# Altium schematic symbol library opto-honeywell.SCHLIB: 117 symbols
Pins are listed as number, name and electrical type; pins without a type are passive.

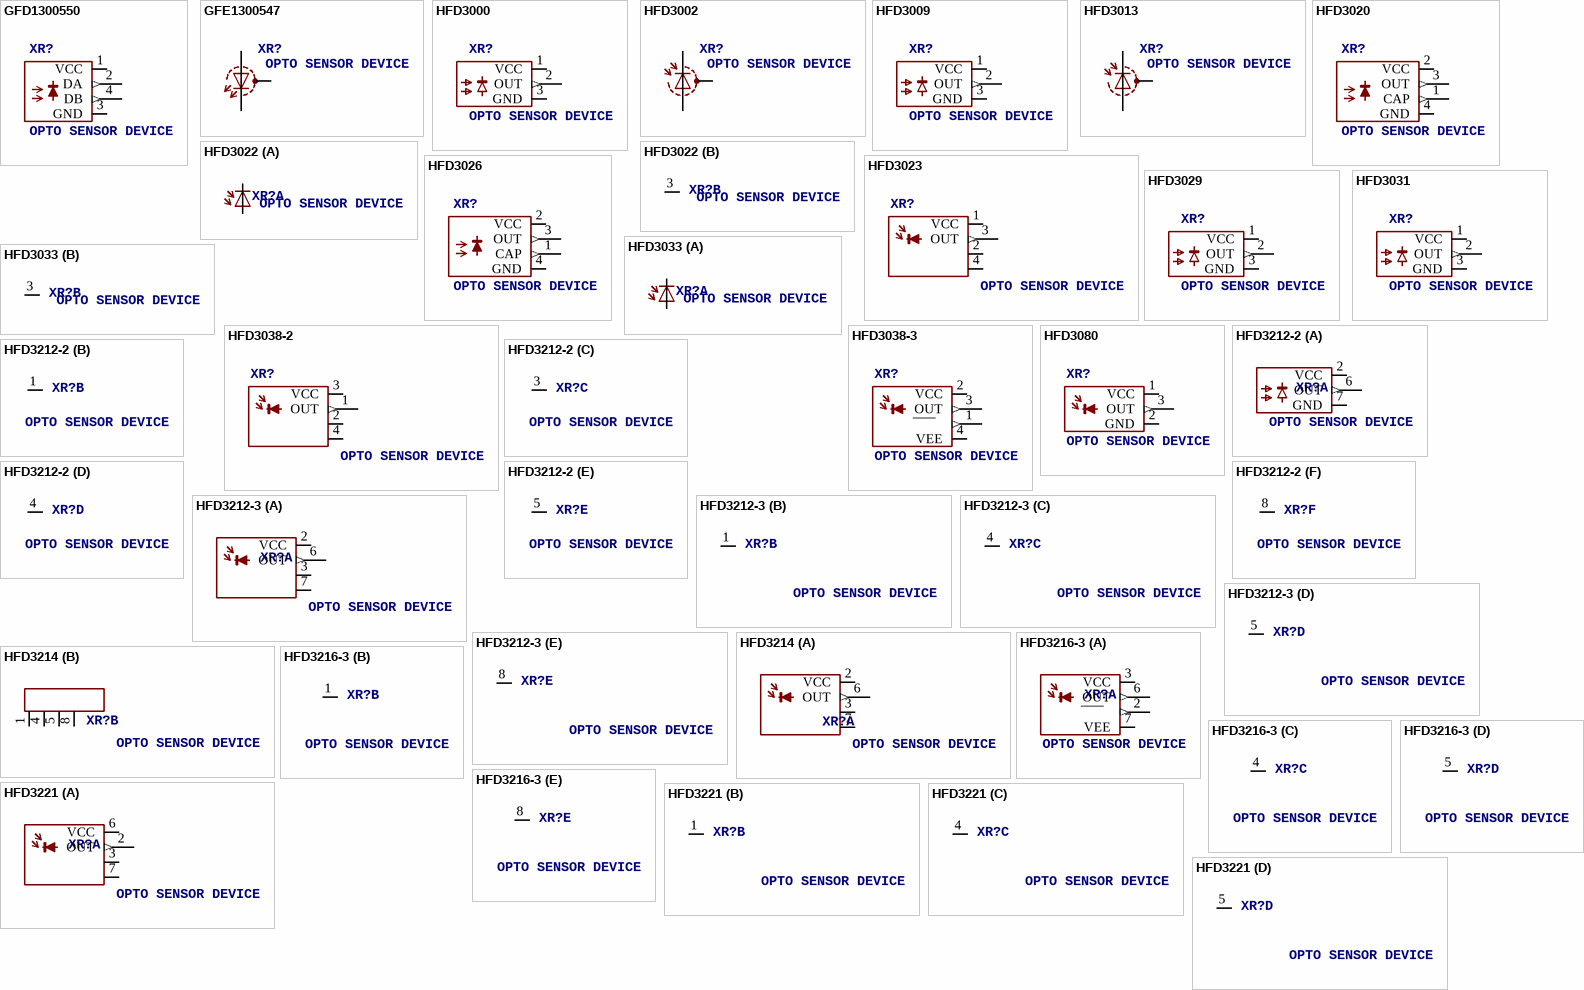
[diagram p0: symbols GFD1300550 to HFD3221]

## GFD1300550
designator XR?, comment OPTO SENSOR DEVICE
OC_FARNELL: unknown; OC_NEWARK: unknown
footprint GFD1300
pins: 1 VCC (power), 2 DA (out), 3 GND (power), 4 DB (out)

## GFE1300547
designator XR?, comment OPTO SENSOR DEVICE
OC_FARNELL: unknown; OC_NEWARK: unknown
footprint ST2
pins: 1 C, 2 A, 3 S

## HFD3000
designator XR?, comment OPTO SENSOR DEVICE
OC_FARNELL: unknown; OC_NEWARK: unknown
footprint TO46-FW3
pins: 1 VCC (power), 2 OUT (out), 3 GND (power)

## HFD3002
designator XR?, comment OPTO SENSOR DEVICE
OC_FARNELL: unknown; OC_NEWARK: unknown
footprint TO46-FW3
pins: 1 A, 2 C, 3 S

## HFD3009
designator XR?, comment OPTO SENSOR DEVICE
OC_FARNELL: unknown; OC_NEWARK: unknown
footprint TO46-FW3
pins: 1 VCC (power), 2 OUT (out), 3 GND (power)

## HFD3013
designator XR?, comment OPTO SENSOR DEVICE
OC_FARNELL: unknown; OC_NEWARK: unknown
footprint TO46-FW3
pins: 1 A, 2 C, 3 S

## HFD3020
designator XR?, comment OPTO SENSOR DEVICE
MPN: HFD3020-500-BBA; OC_FARNELL: unknown; OC_NEWARK: 11R2885
footprint TO18PL4
pins: 1 CAP (out), 2 VCC (power), 3 OUT (out), 4 GND (power)

## HFD3022
designator XR?, comment OPTO SENSOR DEVICE
OC_FARNELL: unknown; OC_NEWARK: unknown
footprint TO18PL3
part A pins: 1 A, 2 C
part B pins: 3 NC

## HFD3023
designator XR?, comment OPTO SENSOR DEVICE
MPN: HFD3023-500; OC_FARNELL: 1082182; OC_NEWARK: 97K1342
footprint TO18PL4
pins: 1 VCC (power), 2 GND@1 (power), 3 OUT (out), 4 GND@2 (power)

## HFD3026
designator XR?, comment OPTO SENSOR DEVICE
OC_FARNELL: unknown; OC_NEWARK: unknown
footprint TO18PL4
pins: 1 CAP (out), 2 VCC (power), 3 OUT (out), 4 GND (power)

## HFD3029
designator XR?, comment OPTO SENSOR DEVICE
OC_FARNELL: unknown; OC_NEWARK: unknown
footprint TO18PL3
pins: 1 VCC (power), 2 OUT (out), 3 GND (power)

## HFD3031
designator XR?, comment OPTO SENSOR DEVICE
OC_FARNELL: unknown; OC_NEWARK: unknown
footprint TO18PL3
pins: 1 VCC (power), 2 OUT (out), 3 GND (power)

## HFD3033
designator XR?, comment OPTO SENSOR DEVICE
OC_FARNELL: unknown; OC_NEWARK: unknown
footprint TO18PL3
part A pins: 1 A, 2 C
part B pins: 3 NC

## HFD3038-2
designator XR?, comment OPTO SENSOR DEVICE
OC_FARNELL: unknown; OC_NEWARK: unknown
footprint TO18PL4
pins: 1 OUT (out), 2 VEE@1 (power), 3 VCC (power), 4 VEE@2 (power)

## HFD3038-3
designator XR?, comment OPTO SENSOR DEVICE
OC_FARNELL: unknown; OC_NEWARK: unknown
footprint TO18PL4
pins: 1 !OUT (out), 2 VCC (power), 3 OUT (out), 4 VEE (power)

## HFD3080
designator XR?, comment OPTO SENSOR DEVICE
OC_FARNELL: unknown; OC_NEWARK: unknown
footprint HFE-3XX
pins: 1 VCC (power), 2 GND (power), 3 OUT (out)

## HFD3212-2
designator XR?, comment OPTO SENSOR DEVICE
OC_FARNELL: unknown; OC_NEWARK: unknown
footprint STUNEF
part A pins: 2 VCC (power), 6 OUT (out), 7 GND (power)
part B pins: 1 NC
part C pins: 3 NC
part D pins: 4 NC
part E pins: 5 NC
part F pins: 8 NC

## HFD3212-3
designator XR?, comment OPTO SENSOR DEVICE
OC_FARNELL: unknown; OC_NEWARK: unknown
footprint STUNEF
part A pins: 2 VCC (power), 3 GND@1 (power), 6 OUT (out), 7 GND@2 (power)
part B pins: 1 NC
part C pins: 4 NC
part D pins: 5 NC
part E pins: 8 NC

## HFD3214
designator XR?, comment OPTO SENSOR DEVICE
OC_FARNELL: unknown; OC_NEWARK: unknown
footprint STUNEF
part A pins: 2 VCC (power), 3 GND@1 (power), 6 OUT (out), 7 GND@2 (power)
part B pins: 1 COM@1 (power), 4 COM@2 (power), 5 COM@3 (power), 8 COM@4 (power)

## HFD3216-3
designator XR?, comment OPTO SENSOR DEVICE
OC_FARNELL: unknown; OC_NEWARK: unknown
footprint STUNEF
part A pins: 2 !OUT (out), 3 VCC (power), 6 OUT (out), 7 VEE (power)
part B pins: 1 NC
part C pins: 4 NC
part D pins: 5 NC
part E pins: 8 NC

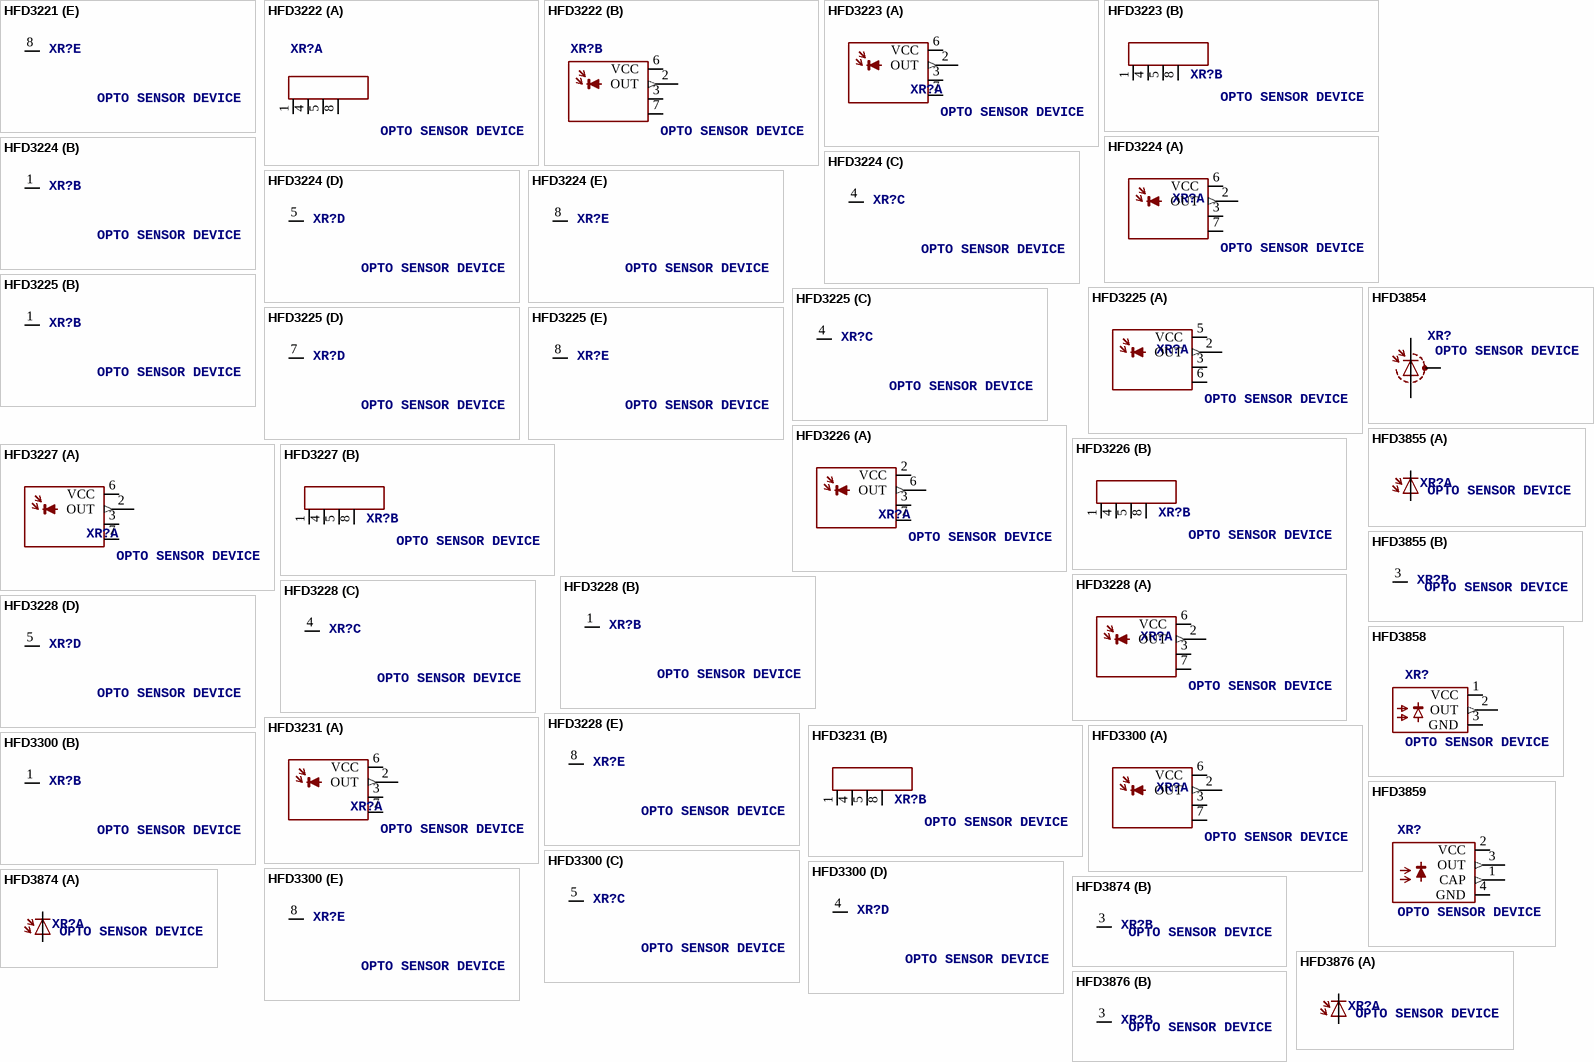
[diagram p1: symbols HFD3221 to HFD3876]

## HFD3221
designator XR?, comment OPTO SENSOR DEVICE
OC_FARNELL: unknown; OC_NEWARK: unknown
footprint NGSTOPHO
part A pins: 2 OUT (out), 3 VEE@1 (power), 6 VCC (power), 7 VEE@2 (power)
part B pins: 1 NC
part C pins: 4 NC
part D pins: 5 NC
part E pins: 8 NC

## HFD3222
designator XR?, comment OPTO SENSOR DEVICE
OC_FARNELL: unknown; OC_NEWARK: unknown
footprint NGSTOPHO
part A pins: 1 COM@1 (power), 4 COM@2 (power), 5 COM@3 (power), 8 COM@4 (power)
part B pins: 2 OUT (out), 3 VEE@1 (power), 6 VCC (power), 7 VEE@2 (power)

## HFD3223
designator XR?, comment OPTO SENSOR DEVICE
OC_FARNELL: unknown; OC_NEWARK: unknown
footprint NGST
part A pins: 2 OUT (out), 3 VEE@1 (power), 6 VCC (power), 7 VEE@2 (power)
part B pins: 1 COM@1 (power), 4 COM@2 (power), 5 COM@3 (power), 8 COM@4 (power)

## HFD3224
designator XR?, comment OPTO SENSOR DEVICE
OC_FARNELL: unknown; OC_NEWARK: unknown
footprint NGST
part A pins: 2 OUT (out), 3 VEE@1 (power), 6 VCC (power), 7 VEE@2 (power)
part B pins: 1 NC
part C pins: 4 NC
part D pins: 5 NC
part E pins: 8 NC

## HFD3225
designator XR?, comment OPTO SENSOR DEVICE
OC_FARNELL: unknown; OC_NEWARK: unknown
footprint STUNEF
part A pins: 2 OUT (out), 3 VEE@1 (power), 5 VCC (power), 6 VEE@2 (power)
part B pins: 1 NC
part C pins: 4 NC
part D pins: 7 NC
part E pins: 8 NC

## HFD3226
designator XR?, comment OPTO SENSOR DEVICE
OC_FARNELL: unknown; OC_NEWARK: unknown
footprint NGSTOPHO
part A pins: 2 VCC (power), 3 GND@1 (power), 6 OUT (out), 7 GND@2 (power)
part B pins: 1 COM@1 (power), 4 COM@2 (power), 5 COM@3 (power), 8 COM@4 (power)

## HFD3227
designator XR?, comment OPTO SENSOR DEVICE
OC_FARNELL: unknown; OC_NEWARK: unknown
footprint STUNEF
part A pins: 2 OUT (out), 3 VEE@1 (power), 6 VCC (power), 7 VEE@2 (power)
part B pins: 1 COM@1 (power), 4 COM@2 (power), 5 COM@3 (power), 8 COM@4 (power)

## HFD3228
designator XR?, comment OPTO SENSOR DEVICE
OC_FARNELL: unknown; OC_NEWARK: unknown
footprint STUNEF
part A pins: 2 OUT (out), 3 VEE@1 (power), 6 VCC (power), 7 VEE@2 (power)
part B pins: 1 NC
part C pins: 4 NC
part D pins: 5 NC
part E pins: 8 NC

## HFD3231
designator XR?, comment OPTO SENSOR DEVICE
OC_FARNELL: unknown; OC_NEWARK: unknown
footprint STUNEF
part A pins: 2 OUT (out), 3 VEE@1 (power), 6 VCC (power), 7 VEE@2 (power)
part B pins: 1 COM@1 (power), 4 COM@2 (power), 5 COM@3 (power), 8 COM@4 (power)

## HFD3300
designator XR?, comment OPTO SENSOR DEVICE
OC_FARNELL: unknown; OC_NEWARK: unknown
footprint SCFIBER
part A pins: 2 OUT (out), 3 VEE@1 (power), 6 VCC (power), 7 VEE@2 (power)
part B pins: 1 NC
part C pins: 5 NC
part D pins: 4 NC
part E pins: 8 NC

## HFD3854
designator XR?, comment OPTO SENSOR DEVICE
OC_FARNELL: unknown; OC_NEWARK: unknown
footprint ST2
pins: 1 A, 2 C, 3 S

## HFD3855
designator XR?, comment OPTO SENSOR DEVICE
OC_FARNELL: unknown; OC_NEWARK: unknown
footprint ST2
part A pins: 1 A, 2 C
part B pins: 3 NC

## HFD3858
designator XR?, comment OPTO SENSOR DEVICE
OC_FARNELL: unknown; OC_NEWARK: unknown
footprint ST2
pins: 1 VCC (power), 2 OUT (out), 3 GND (power)

## HFD3859
designator XR?, comment OPTO SENSOR DEVICE
OC_FARNELL: unknown; OC_NEWARK: unknown
footprint ST3894-3
pins: 1 CAP (out), 2 VCC (power), 3 OUT (out), 4 GND (power)

## HFD3874
designator XR?, comment OPTO SENSOR DEVICE
OC_FARNELL: unknown; OC_NEWARK: unknown
footprint ST2
part A pins: 1 A, 2 C
part B pins: 3 NC

## HFD3876
designator XR?, comment OPTO SENSOR DEVICE
OC_FARNELL: unknown; OC_NEWARK: unknown
footprint ST2
part A pins: 1 A, 2 C
part B pins: 3 NC

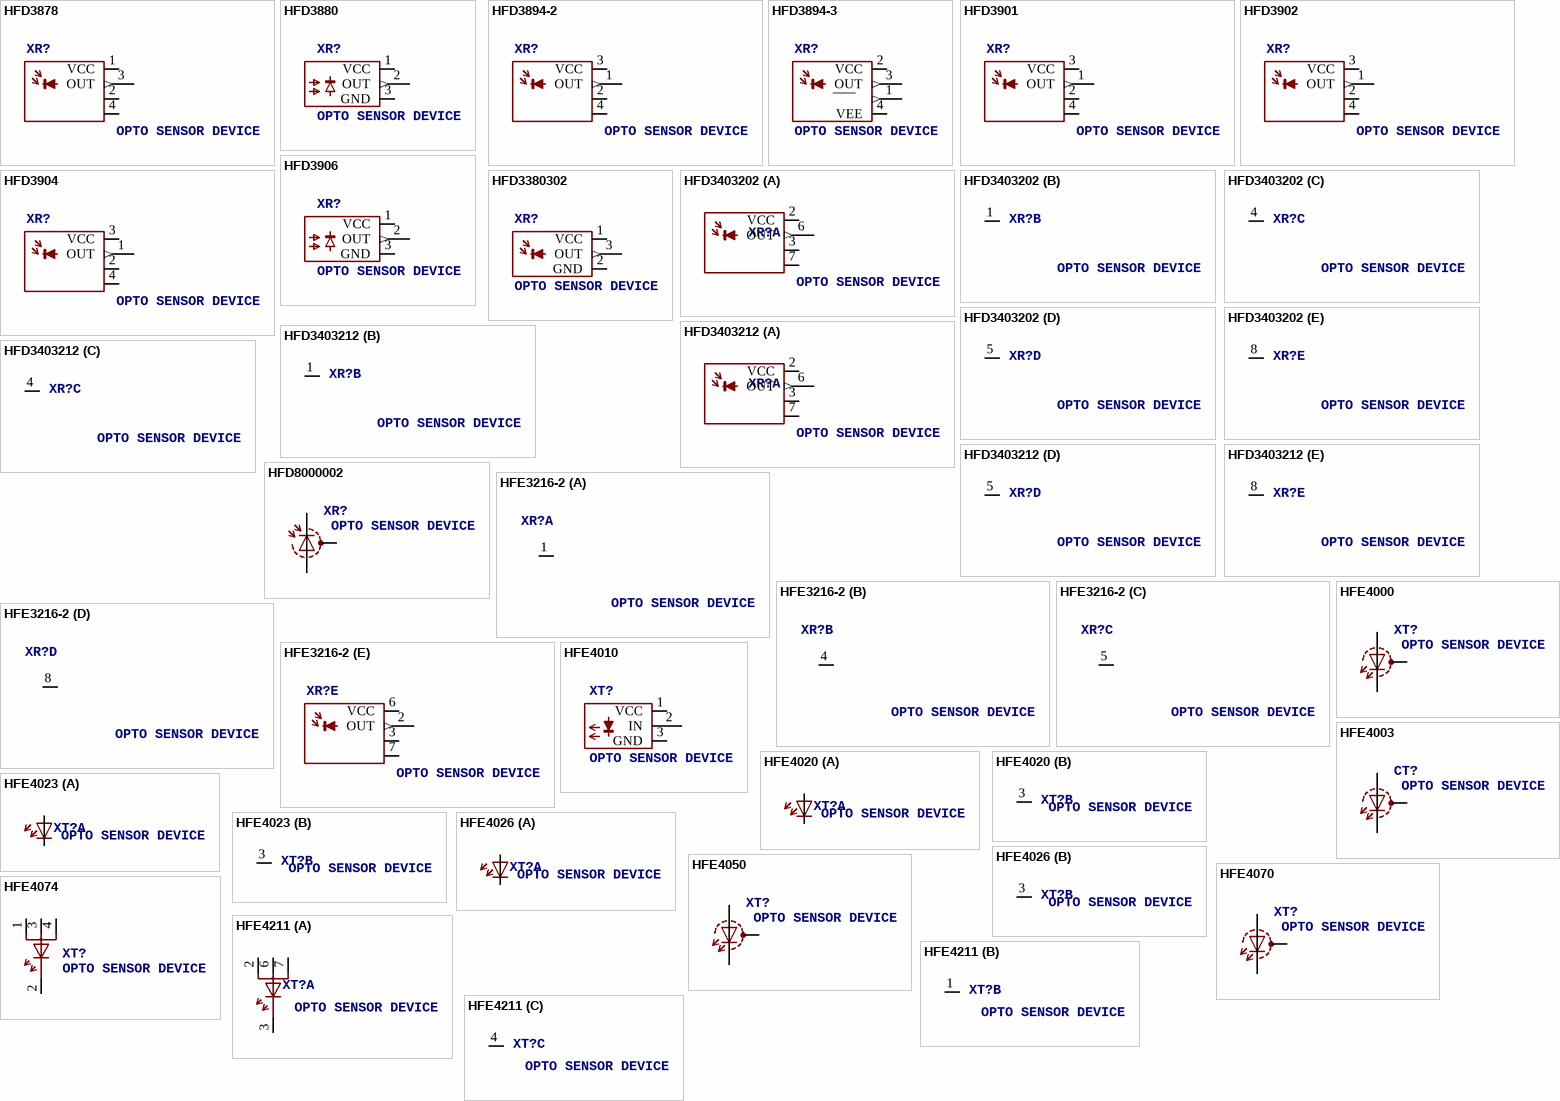
[diagram p2: symbols HFD3878 to HFE4211]

## HFD3878
designator XR?, comment OPTO SENSOR DEVICE
OC_FARNELL: unknown; OC_NEWARK: unknown
footprint ST3894-3
pins: 1 VCC (power), 2 GND@1 (power), 3 OUT (out), 4 GND@2 (power)

## HFD3880
designator XR?, comment OPTO SENSOR DEVICE
OC_FARNELL: unknown; OC_NEWARK: unknown
footprint ST2
pins: 1 VCC (power), 2 OUT (out), 3 GND (power)

## HFD3894-2
designator XR?, comment OPTO SENSOR DEVICE
OC_FARNELL: unknown; OC_NEWARK: unknown
footprint STLPBENT
pins: 1 OUT (out), 2 VEE@1 (power), 3 VCC (power), 4 VEE@2 (power)

## HFD3894-3
designator XR?, comment OPTO SENSOR DEVICE
OC_FARNELL: unknown; OC_NEWARK: unknown
footprint ST3894-3
pins: 1 !OUT (out), 2 VCC (power), 3 OUT (out), 4 VEE (power)

## HFD3901
designator XR?, comment OPTO SENSOR DEVICE
OC_FARNELL: unknown; OC_NEWARK: unknown
footprint STLP2
pins: 1 OUT (out), 2 VEE@1 (power), 3 VCC (power), 4 VEE@2 (power)

## HFD3902
designator XR?, comment OPTO SENSOR DEVICE
OC_FARNELL: unknown; OC_NEWARK: unknown
footprint F4
pins: 1 OUT (out), 2 VEE@1 (power), 3 VCC (power), 4 VEE@2 (power)

## HFD3904
designator XR?, comment OPTO SENSOR DEVICE
OC_FARNELL: unknown; OC_NEWARK: unknown
footprint F4UNEF
pins: 1 OUT (out), 2 VEE@1 (power), 3 VCC (power), 4 VEE@2 (power)

## HFD3906
designator XR?, comment OPTO SENSOR DEVICE
OC_FARNELL: unknown; OC_NEWARK: unknown
footprint ST2
pins: 1 VCC (power), 2 OUT (out), 3 GND (power)

## HFD3380302
designator XR?, comment OPTO SENSOR DEVICE
OC_FARNELL: unknown; OC_NEWARK: unknown
footprint TO46-LX
pins: 1 VCC (power), 2 GND (power), 3 OUT (out)

## HFD3403202
designator XR?, comment OPTO SENSOR DEVICE
OC_FARNELL: unknown; OC_NEWARK: unknown
footprint HFX6-200
part A pins: 2 VCC (power), 3 GND@1 (power), 6 OUT (out), 7 GND@2 (power)
part B pins: 1 NC
part C pins: 4 NC
part D pins: 5 NC
part E pins: 8 NC

## HFD3403212
designator XR?, comment OPTO SENSOR DEVICE
OC_FARNELL: unknown; OC_NEWARK: unknown
footprint HFX6-548
part A pins: 2 VCC (power), 3 GND@1 (power), 6 OUT (out), 7 GND@2 (power)
part B pins: 1 NC
part C pins: 4 NC
part D pins: 5 NC
part E pins: 8 NC

## HFD8000002
designator XR?, comment OPTO SENSOR DEVICE
OC_FARNELL: unknown; OC_NEWARK: unknown
footprint ST-LP
pins: 1 A, 2 C, 3 S

## HFE3216-2
designator XR?, comment OPTO SENSOR DEVICE
OC_FARNELL: unknown; OC_NEWARK: unknown
footprint STUNEF
part A pins: 1 NC
part B pins: 4 NC
part C pins: 5 NC
part D pins: 8 NC
part E pins: 2 OUT (out), 3 VEE@1 (power), 6 VCC (power), 7 VEE@2 (power)

## HFE4000
designator XT?, comment OPTO SENSOR DEVICE
OC_FARNELL: unknown; OC_NEWARK: unknown
footprint TO46-P3
pins: 1 A, 2 C, 3 S

## HFE4003
designator CT?, comment OPTO SENSOR DEVICE
OC_FARNELL: unknown; OC_NEWARK: unknown
footprint TO46-P3
pins: 1 A, 2 C, 3 S

## HFE4010
designator XT?, comment OPTO SENSOR DEVICE
OC_FARNELL: unknown; OC_NEWARK: unknown
footprint TO46-P3
pins: 1 VCC (power), 2 IN, 3 GND (power)

## HFE4020
designator XT?, comment OPTO SENSOR DEVICE
MPN: HFE4020-313/BBA; MF: MICRO SWITCH; OC_FARNELL: unknown; OC_NEWARK: 71J4513
footprint TO46-P3
part A pins: 1 A, 2 C
part B pins: 3 NC

## HFE4023
designator XT?, comment OPTO SENSOR DEVICE
OC_FARNELL: unknown; OC_NEWARK: unknown
footprint TO-18
part A pins: 1 A, 2 C
part B pins: 3 NC

## HFE4026
designator XT?, comment OPTO SENSOR DEVICE
OC_FARNELL: unknown; OC_NEWARK: unknown
footprint TO-18
part A pins: 1 A, 2 C
part B pins: 3 NC

## HFE4050
designator XT?, comment OPTO SENSOR DEVICE
OC_FARNELL: unknown; OC_NEWARK: unknown
footprint TO46-P3
pins: 1 A, 2 C, 3 S

## HFE4070
designator XT?, comment OPTO SENSOR DEVICE
MPN: HFE4070-500/AAA; OC_FARNELL: unknown; OC_NEWARK: 05N0467
footprint TO-18
pins: 1 A, 2 C, 3 S

## HFE4074
designator XT?, comment OPTO SENSOR DEVICE
OC_FARNELL: unknown; OC_NEWARK: unknown
footprint TO18-4
pins: 1 A1, 2 C, 3 A2, 4 A3

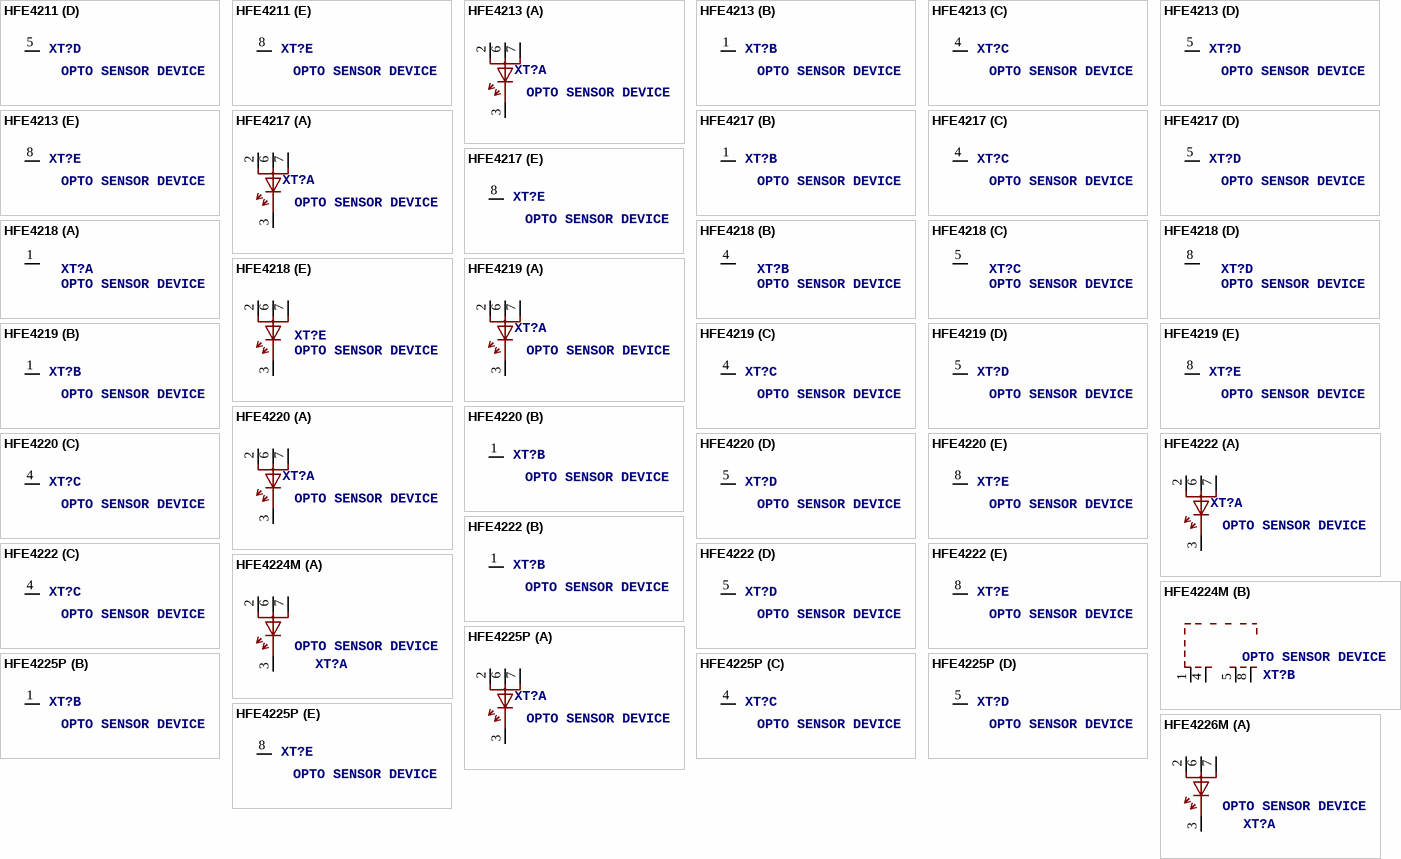
[diagram p3: symbols HFE4211 to HFE4226M]

## HFE4211
designator XT?, comment OPTO SENSOR DEVICE
OC_FARNELL: unknown; OC_NEWARK: unknown
footprint STPF102
part A pins: 2 A1, 3 C, 6 A2, 7 A3
part B pins: 1 NC
part C pins: 4 NC
part D pins: 5 NC
part E pins: 8 NC

## HFE4213
designator XT?, comment OPTO SENSOR DEVICE
OC_FARNELL: unknown; OC_NEWARK: unknown
footprint STPF102
part A pins: 2 A1, 3 C, 6 A2, 7 A3
part B pins: 1 NC
part C pins: 4 NC
part D pins: 5 NC
part E pins: 8 NC

## HFE4217
designator XT?, comment OPTO SENSOR DEVICE
OC_FARNELL: unknown; OC_NEWARK: unknown
footprint STPF102
part A pins: 2 A1, 3 C, 6 A2, 7 A3
part B pins: 1 NC
part C pins: 4 NC
part D pins: 5 NC
part E pins: 8 NC

## HFE4218
designator XT?, comment OPTO SENSOR DEVICE
OC_FARNELL: unknown; OC_NEWARK: unknown
footprint STPF201
part A pins: 1 NC
part B pins: 4 NC
part C pins: 5 NC
part D pins: 8 NC
part E pins: 2 A1, 3 C, 6 A2, 7 A3

## HFE4219
designator XT?, comment OPTO SENSOR DEVICE
OC_FARNELL: unknown; OC_NEWARK: unknown
footprint STPF201
part A pins: 2 A1, 3 C, 6 A2, 7 A3
part B pins: 1 NC
part C pins: 4 NC
part D pins: 5 NC
part E pins: 8 NC

## HFE4220
designator XT?, comment OPTO SENSOR DEVICE
OC_FARNELL: unknown; OC_NEWARK: unknown
footprint STPF102
part A pins: 2 A1, 3 C, 6 A2, 7 A3
part B pins: 1 NC
part C pins: 4 NC
part D pins: 5 NC
part E pins: 8 NC

## HFE4222
designator XT?, comment OPTO SENSOR DEVICE
OC_FARNELL: unknown; OC_NEWARK: unknown
footprint STPF201
part A pins: 2 A1, 3 C, 6 A2, 7 A3
part B pins: 1 NC
part C pins: 4 NC
part D pins: 5 NC
part E pins: 8 NC

## HFE4224M
designator XT?, comment OPTO SENSOR DEVICE
OC_FARNELL: unknown; OC_NEWARK: unknown
footprint NGST
part A pins: 2 A1, 3 C, 6 A2, 7 A3
part B pins: 1 COM@1 (power), 4 COM@2 (power), 5 COM@3 (power), 8 COM@4 (power)

## HFE4225P
designator XT?, comment OPTO SENSOR DEVICE
OC_FARNELL: unknown; OC_NEWARK: unknown
footprint NGST
part A pins: 2 A1, 3 C, 6 A2, 7 A3
part B pins: 1 NC
part C pins: 4 NC
part D pins: 5 NC
part E pins: 8 NC

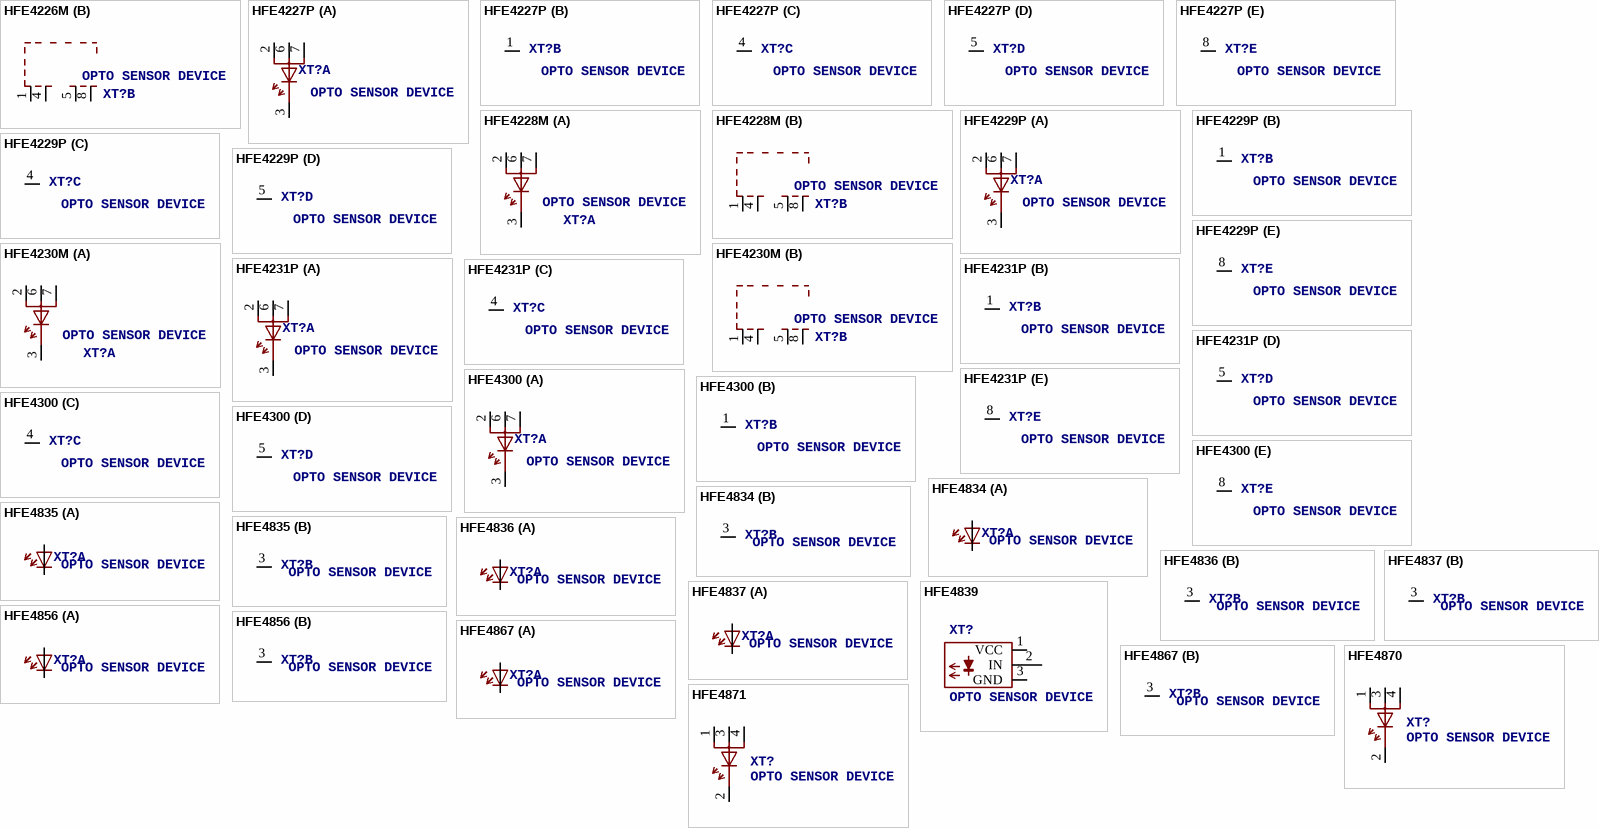
[diagram p4: symbols HFE4226M to HFE4871]

## HFE4226M
designator XT?, comment OPTO SENSOR DEVICE
OC_FARNELL: unknown; OC_NEWARK: unknown
footprint STUNEF
part A pins: 2 A1, 3 C, 6 A2, 7 A3
part B pins: 1 COM@1 (power), 4 COM@2 (power), 5 COM@3 (power), 8 COM@4 (power)

## HFE4227P
designator XT?, comment OPTO SENSOR DEVICE
OC_FARNELL: unknown; OC_NEWARK: unknown
footprint STUNEF
part A pins: 2 A1, 3 C, 6 A2, 7 A3
part B pins: 1 NC
part C pins: 4 NC
part D pins: 5 NC
part E pins: 8 NC

## HFE4228M
designator XT?, comment OPTO SENSOR DEVICE
OC_FARNELL: unknown; OC_NEWARK: unknown
footprint NGST
part A pins: 2 A1, 3 C, 6 A2, 7 A3
part B pins: 1 COM@1 (power), 4 COM@2 (power), 5 COM@3 (power), 8 COM@4 (power)

## HFE4229P
designator XT?, comment OPTO SENSOR DEVICE
OC_FARNELL: unknown; OC_NEWARK: unknown
footprint NGST
part A pins: 2 A1, 3 C, 6 A2, 7 A3
part B pins: 1 NC
part C pins: 4 NC
part D pins: 5 NC
part E pins: 8 NC

## HFE4230M
designator XT?, comment OPTO SENSOR DEVICE
OC_FARNELL: unknown; OC_NEWARK: unknown
footprint STUNEF
part A pins: 2 A1, 3 C, 6 A2, 7 A3
part B pins: 1 COM@1 (power), 4 COM@2 (power), 5 COM@3 (power), 8 COM@4 (power)

## HFE4231P
designator XT?, comment OPTO SENSOR DEVICE
OC_FARNELL: unknown; OC_NEWARK: unknown
footprint STUNEF
part A pins: 2 A1, 3 C, 6 A2, 7 A3
part B pins: 1 NC
part C pins: 4 NC
part D pins: 5 NC
part E pins: 8 NC

## HFE4300
designator XT?, comment OPTO SENSOR DEVICE
OC_FARNELL: unknown; OC_NEWARK: unknown
footprint SCFIBER
part A pins: 2 A1, 3 C, 6 A2, 7 A3
part B pins: 1 NC
part C pins: 4 NC
part D pins: 5 NC
part E pins: 8 NC

## HFE4834
designator XT?, comment OPTO SENSOR DEVICE
OC_FARNELL: unknown; OC_NEWARK: unknown
footprint ST-LPL
part A pins: 1 A, 2 C
part B pins: 3 NC

## HFE4835
designator XT?, comment OPTO SENSOR DEVICE
OC_FARNELL: unknown; OC_NEWARK: unknown
footprint ST-LPL
part A pins: 1 A, 2 C
part B pins: 3 NC

## HFE4836
designator XT?, comment OPTO SENSOR DEVICE
OC_FARNELL: unknown; OC_NEWARK: unknown
footprint ST-LPL
part A pins: 1 A, 2 C
part B pins: 3 NC

## HFE4837
designator XT?, comment OPTO SENSOR DEVICE
OC_FARNELL: unknown; OC_NEWARK: unknown
footprint ST-LPL
part A pins: 1 A, 2 C
part B pins: 3 NC

## HFE4839
designator XT?, comment OPTO SENSOR DEVICE
OC_FARNELL: unknown; OC_NEWARK: unknown
footprint ST-LPL
pins: 1 VCC (power), 2 IN, 3 GND (power)

## HFE4856
designator XT?, comment OPTO SENSOR DEVICE
OC_FARNELL: unknown; OC_NEWARK: unknown
footprint ST-LPL
part A pins: 1 A, 2 C
part B pins: 3 NC

## HFE4867
designator XT?, comment OPTO SENSOR DEVICE
OC_FARNELL: unknown; OC_NEWARK: unknown
footprint ST-LPL
part A pins: 1 A, 2 C
part B pins: 3 NC

## HFE4870
designator XT?, comment OPTO SENSOR DEVICE
OC_FARNELL: unknown; OC_NEWARK: unknown
footprint STLPBENT
pins: 1 A1, 2 C, 3 A2, 4 A3

## HFE4871
designator XT?, comment OPTO SENSOR DEVICE
OC_FARNELL: unknown; OC_NEWARK: unknown
footprint STLP2
pins: 1 A1, 2 C, 3 A2, 4 A3

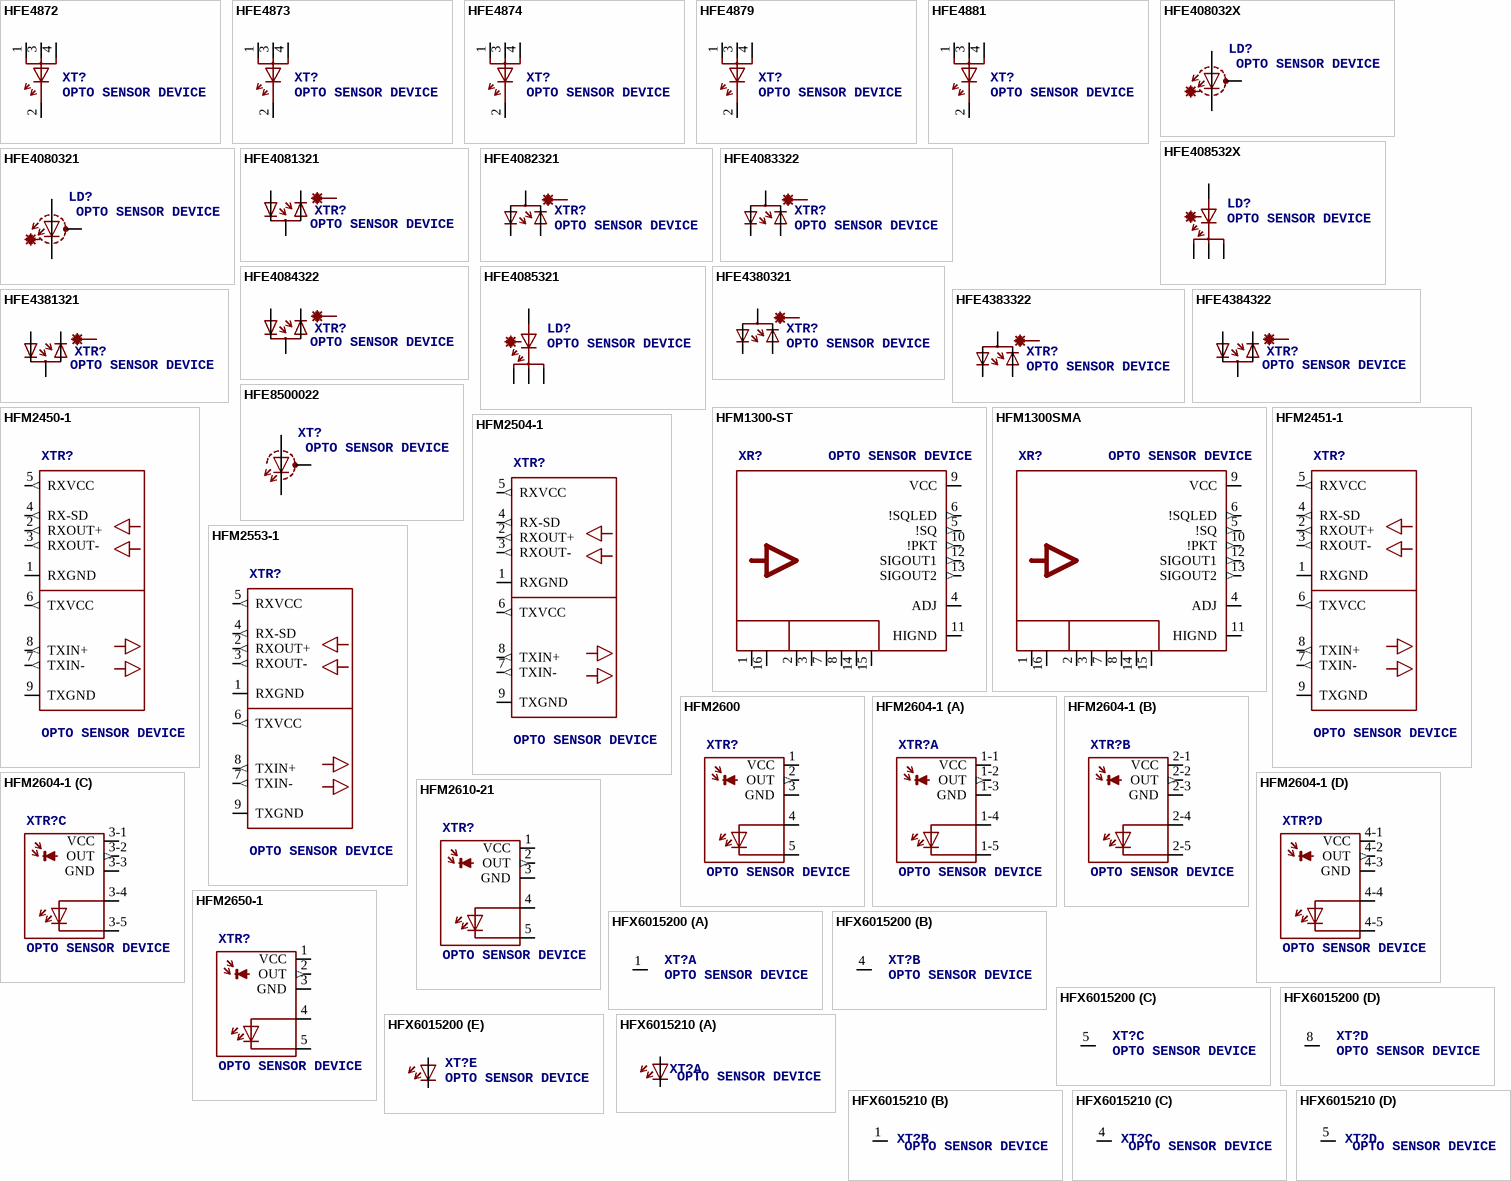
[diagram p5: symbols HFE4872 to HFX6015210]

## HFE4872
designator XT?, comment OPTO SENSOR DEVICE
OC_FARNELL: unknown; OC_NEWARK: unknown
footprint STLPBENT
pins: 1 A1, 2 C, 3 A2, 4 A3

## HFE4873
designator XT?, comment OPTO SENSOR DEVICE
OC_FARNELL: unknown; OC_NEWARK: unknown
footprint STLP2
pins: 1 A1, 2 C, 3 A2, 4 A3

## HFE4874
designator XT?, comment OPTO SENSOR DEVICE
OC_FARNELL: unknown; OC_NEWARK: unknown
footprint F4
pins: 1 A1, 2 C, 3 A2, 4 A3

## HFE4879
designator XT?, comment OPTO SENSOR DEVICE
OC_FARNELL: unknown; OC_NEWARK: unknown
footprint F4UNEF
pins: 1 A1, 2 C, 3 A2, 4 A3

## HFE4881
designator XT?, comment OPTO SENSOR DEVICE
OC_FARNELL: unknown; OC_NEWARK: unknown
footprint F4
pins: 1 A1, 2 C, 3 A2, 4 A3

## HFE408032X
designator LD?, comment OPTO SENSOR DEVICE
OC_FARNELL: unknown; OC_NEWARK: unknown
footprint STLP4
pins: 1 C1, 2 A, 3 C2, 4 S

## HFE408532X
designator LD?, comment OPTO SENSOR DEVICE
MPN: HFE4085-321; MF: HONEYWELL; OC_FARNELL: unknown; OC_NEWARK: 01H8475
footprint STLP4
pins: 1 C1, 2 A, 3 C2, 4 C3

## HFE4080321
designator LD?, comment OPTO SENSOR DEVICE
MPN: HFE4080-321/XBA; OC_FARNELL: 1201183; OC_NEWARK: 97K1349
footprint TO46-FW4
pins: 1 C1, 2 A, 3 C2, 4 S

## HFE4081321
designator XTR?, comment OPTO SENSOR DEVICE
OC_FARNELL: unknown; OC_NEWARK: unknown
footprint HFE-3XX
pins: 1 A, 2 C, 3 CMONI

## HFE4082321
designator XTR?, comment OPTO SENSOR DEVICE
OC_FARNELL: unknown; OC_NEWARK: unknown
footprint HFE-3XX
pins: 1 C, 2 A, 3 AMONI

## HFE4083322
designator XTR?, comment OPTO SENSOR DEVICE
OC_FARNELL: 7538910; OC_NEWARK: unknown
footprint HFE-3XX
pins: 1 C, 2 A, 3 AMONI

## HFE4084322
designator XTR?, comment OPTO SENSOR DEVICE
OC_FARNELL: unknown; OC_NEWARK: unknown
footprint HFE-3XX
pins: 1 A, 2 C, 3 CMONI

## HFE4085321
designator LD?, comment OPTO SENSOR DEVICE
MPN: HFE4085-321; MF: HONEYWELL; OC_FARNELL: unknown; OC_NEWARK: 01H8475
footprint TO46-LW4
pins: 1 C1, 2 A, 3 C2, 4 C3

## HFE4380321
designator XTR?, comment OPTO SENSOR DEVICE
OC_FARNELL: unknown; OC_NEWARK: unknown
footprint FRS
pins: 1 C, 2 A, 3 AMONI

## HFE4381321
designator XTR?, comment OPTO SENSOR DEVICE
OC_FARNELL: unknown; OC_NEWARK: unknown
footprint FRS
pins: 1 A, 2 C, 3 CMONI

## HFE4383322
designator XTR?, comment OPTO SENSOR DEVICE
OC_FARNELL: unknown; OC_NEWARK: unknown
footprint FRS
pins: 1 C, 2 A, 3 AMONI

## HFE4384322
designator XTR?, comment OPTO SENSOR DEVICE
OC_FARNELL: unknown; OC_NEWARK: unknown
footprint FRS
pins: 1 A, 2 C, 3 CMONI

## HFE8500022
designator XT?, comment OPTO SENSOR DEVICE
OC_FARNELL: unknown; OC_NEWARK: unknown
footprint ST-LP
pins: 1 A, 2 C, 3 S

## HFM1300-ST
designator XR?, comment OPTO SENSOR DEVICE
OC_FARNELL: unknown; OC_NEWARK: unknown
footprint HFM-ST
pins: 1 CASEGND@1 (power), 2 GND@2 (power), 3 GND@3 (power), 4 ADJ, 5 !SQ (out), 6 !SQLED (out), 7 GND@4 (power), 8 GND@5 (power), 9 VCC (power), 10 !PKT (out), 11 HIGND (power), 12 SIGOUT1 (out), 13 SIGOUT2 (out), 14 GND@6 (power), 15 GND@7 (power), 16 CASEGND@2 (power)

## HFM1300SMA
designator XR?, comment OPTO SENSOR DEVICE
OC_FARNELL: unknown; OC_NEWARK: unknown
footprint HFM-SMA
pins: 1 CASEGND@1 (power), 2 GND@2 (power), 3 GND@3 (power), 4 ADJ, 5 !SQ (out), 6 !SQLED (out), 7 GND@4 (power), 8 GND@5 (power), 9 VCC (power), 10 !PKT (out), 11 HIGND (power), 12 SIGOUT1 (out), 13 SIGOUT2 (out), 14 GND@6 (power), 15 GND@7 (power), 16 CASEGND@2 (power)

## HFM2450-1
designator XTR?, comment OPTO SENSOR DEVICE
OC_FARNELL: unknown; OC_NEWARK: unknown
footprint 2450-001
pins: 1 RXGND (power), 2 RXOUT+ (out), 3 RXOUT- (out), 4 RX-SD (out), 5 RXVCC (out), 6 TXVCC (out), 7 TXIN- (out), 8 TXIN+ (out), 9 TXGND (power)

## HFM2451-1
designator XTR?, comment OPTO SENSOR DEVICE
OC_FARNELL: unknown; OC_NEWARK: unknown
footprint HFM2451
pins: 1 RXGND (power), 2 RXOUT+ (out), 3 RXOUT- (out), 4 RX-SD (out), 5 RXVCC (out), 6 TXVCC (out), 7 TXIN- (out), 8 TXIN+ (out), 9 TXGND (power)

## HFM2504-1
designator XTR?, comment OPTO SENSOR DEVICE
OC_FARNELL: unknown; OC_NEWARK: unknown
footprint 2450-001
pins: 1 RXGND (power), 2 RXOUT+ (out), 3 RXOUT- (out), 4 RX-SD (out), 5 RXVCC (out), 6 TXVCC (out), 7 TXIN- (out), 8 TXIN+ (out), 9 TXGND (power)

## HFM2553-1
designator XTR?, comment OPTO SENSOR DEVICE
OC_FARNELL: unknown; OC_NEWARK: unknown
footprint 2450-001
pins: 1 RXGND (power), 2 RXOUT+ (out), 3 RXOUT- (out), 4 RX-SD (out), 5 RXVCC (out), 6 TXVCC (out), 7 TXIN- (out), 8 TXIN+ (out), 9 TXGND (power)

## HFM2600
designator XTR?, comment OPTO SENSOR DEVICE
OC_FARNELL: unknown; OC_NEWARK: unknown
footprint UTPFTTP
pins: 1 VCC (power), 2 OUT (out), 3 GND (power), 4 A, 5 C

## HFM2604-1
designator XTR?, comment OPTO SENSOR DEVICE
OC_FARNELL: unknown; OC_NEWARK: unknown
footprint UTPFTTP4
part A pins: 1-1 VCC (power), 1-2 OUT (out), 1-3 GND (power), 1-4 A, 1-5 C
part B pins: 2-1 VCC (power), 2-2 OUT (out), 2-3 GND (power), 2-4 A, 2-5 C
part C pins: 3-1 VCC (power), 3-2 OUT (out), 3-3 GND (power), 3-4 A, 3-5 C
part D pins: 4-1 VCC (power), 4-2 OUT (out), 4-3 GND (power), 4-4 A, 4-5 C

## HFM2610-21
designator XTR?, comment OPTO SENSOR DEVICE
OC_FARNELL: unknown; OC_NEWARK: unknown
footprint UTPFTTP
pins: 1 VCC (power), 2 OUT (out), 3 GND (power), 4 A, 5 C

## HFM2650-1
designator XTR?, comment OPTO SENSOR DEVICE
OC_FARNELL: unknown; OC_NEWARK: unknown
footprint UTPFTTP
pins: 1 VCC (power), 2 OUT (out), 3 GND (power), 4 A, 5 C

## HFX6015200
designator XT?, comment OPTO SENSOR DEVICE
MPN: HFX6015-200; OC_FARNELL: unknown; OC_NEWARK: 34M4550
footprint HFX6-200
part A pins: 1 NC
part B pins: 4 NC
part C pins: 5 NC
part D pins: 8 NC
part E pins: 2 A, 3 C

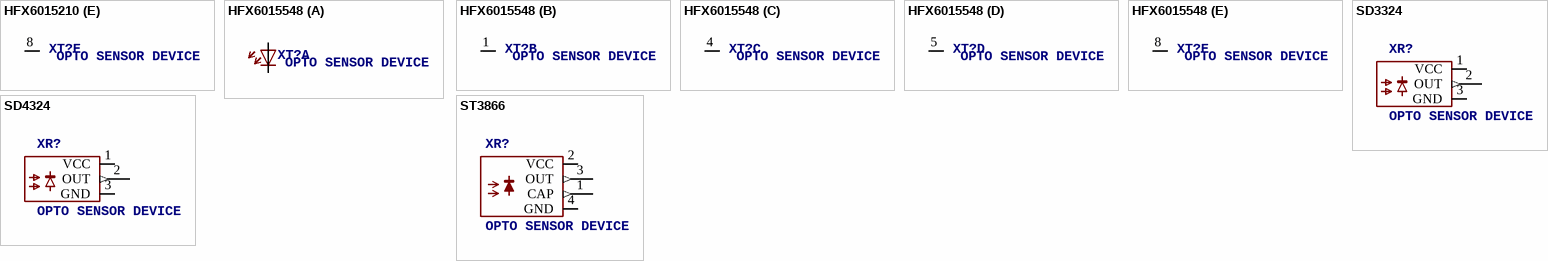
[diagram p6: symbols HFX6015210 to ST3866]

## HFX6015210
designator XT?, comment OPTO SENSOR DEVICE
OC_FARNELL: unknown; OC_NEWARK: unknown
footprint HFX6-548
part A pins: 2 A, 3 C
part B pins: 1 NC
part C pins: 4 NC
part D pins: 5 NC
part E pins: 8 NC

## HFX6015548
designator XT?, comment OPTO SENSOR DEVICE
OC_FARNELL: unknown; OC_NEWARK: unknown
footprint HFX6-548
part A pins: 2 A, 3 C
part B pins: 1 NC
part C pins: 4 NC
part D pins: 5 NC
part E pins: 8 NC

## SD3324
designator XR?, comment OPTO SENSOR DEVICE
OC_FARNELL: unknown; OC_NEWARK: unknown
footprint TO46-LW3
pins: 1 VCC (power), 2 OUT (out), 3 GND (power)

## SD4324
designator XR?, comment OPTO SENSOR DEVICE
OC_FARNELL: unknown; OC_NEWARK: unknown
footprint TO18PL3
pins: 1 VCC (power), 2 OUT (out), 3 GND (power)

## ST3866
designator XR?, comment OPTO SENSOR DEVICE
OC_FARNELL: unknown; OC_NEWARK: unknown
footprint ST3894-3
pins: 1 CAP (out), 2 VCC (power), 3 OUT (out), 4 GND (power)